# Altium schematic symbol library Buzzer.SchLib: 2 symbols
Pins are listed as number, name and electrical type; pins without a type are passive.

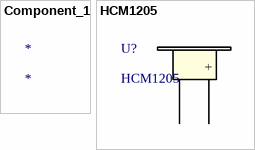
[diagram p0: symbols Component_1 to HCM1205]

## Component_1
designator *

## HCM1205
designator U?
No Description Available; Vendor: Kingstate Electronics; Built_By: EMA_Cory; Manufacturer_Part_Number: HCM1205; Copyright: Copyright (C) 2018 Accelerated Designs. All rights reserved; RefDes: RefDes; Type: DEV; Value: Value
footprint KXG1205CL
pins: 1, 2 +